# Altium footprint library SOIC127P1030X265-24N.PcbLib: 1 footprints
Each footprint in its own frame and in the unit in brackets; x right, y up, seen from the top. Pads: shape width x height; smd on the part's side, far side on the other; paste and mask are expansions set on the pad; w line width, h text height; cw(c..) or ccw(c..) is an arc to the next point about the centre after c.
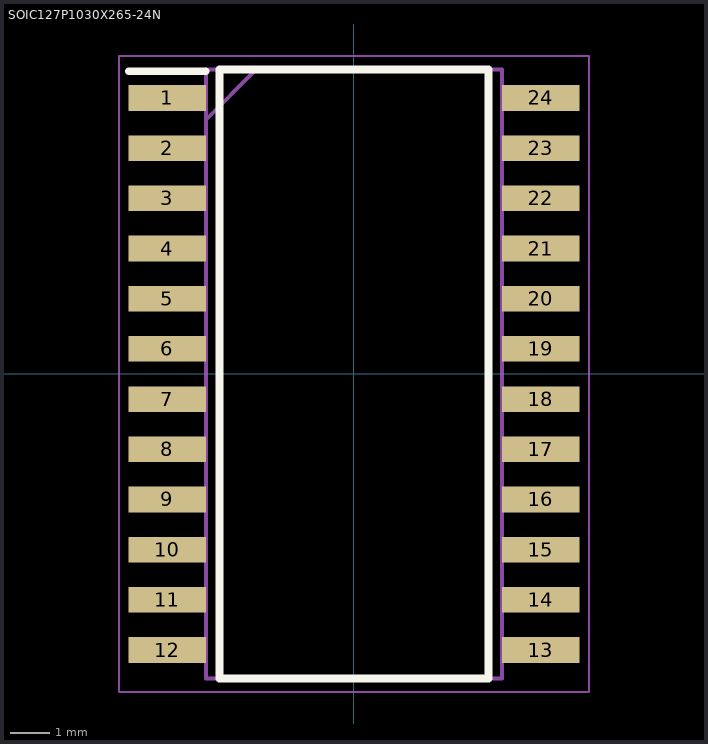
[diagram p0: the footprint, top view; thin cyan lines are the x and y axes]

## SOIC127P1030X265-24N [mm]
pads (24):
  rect 1.95x0.65 smd: 1(-4.725,6.985) 2(-4.725,5.715) 3(-4.725,4.445) 4(-4.725,3.175) 5(-4.725,1.905) 6(-4.725,0.635) 7(-4.725,-0.635) 8(-4.725,-1.905) 9(-4.725,-3.175) 10(-4.725,-4.445) 11(-4.725,-5.715) 12(-4.725,-6.985) 13(4.725,-6.985) 14(4.725,-5.715) 15(4.725,-4.445) 16(4.725,-3.175) 17(4.725,-1.905) 18(4.725,-0.635) 19(4.725,0.635) 20(4.725,1.905) 21(4.725,3.175) 22(4.725,4.445) 23(4.725,5.715) 24(4.725,6.985)
Top Overlay:
  lines w0.2: -5.7,7.66 -3.75,7.66 ; -3.4,-7.7 3.4,-7.7 3.4,7.7 -3.4,7.7 -3.4,-7.7
Mechanical 15:
  lines w0.1: -3.75,6.43 -2.48,7.7 ; -3.75,-7.7 3.75,-7.7 3.75,7.7 -3.75,7.7 -3.75,-7.7
Mechanical 20:
  lines w0.05: -5.95,-8.05 5.95,-8.05 5.95,8.05 -5.95,8.05 -5.95,-8.05